# EAGLE library part ATTINY24A (library !ATtiny24A)
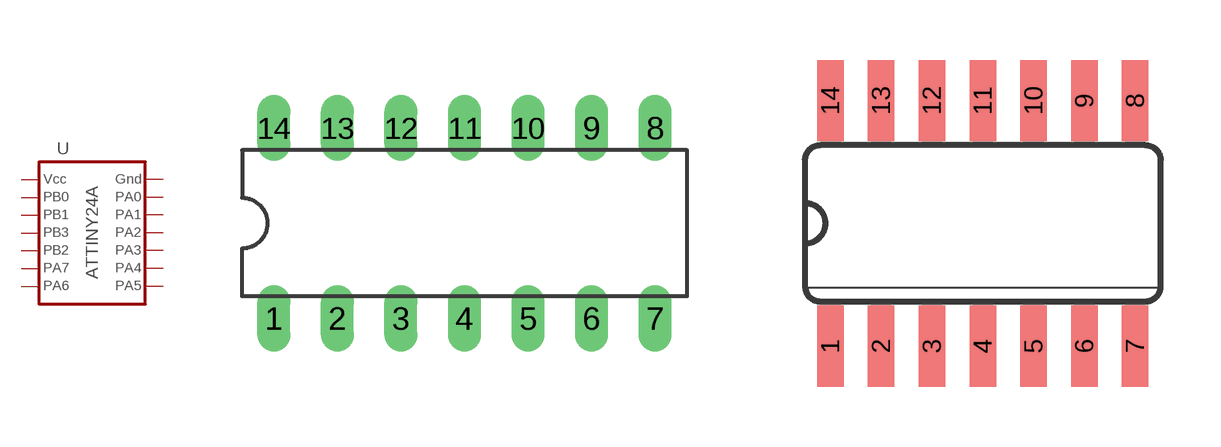
[diagram p0: symbol with the pads of TINY24A; footprints TINY24A, SO14]

Designator prefix -

## ATTINY24A  [TINY24A]
1  P$1
2  P$2
3  P$3
4  P$4
5  P$5
6  P$6
7  P$7
8  P$8
9  P$9
10  P$10
11  P$11
12  P$12
13  P$13
14  P$14

## ATTINY24ASO14  [SO14]
Pads as for TINY24A

## Footprint TINY24A (pad centres in mm)
drill 0.813 long: 1 -1.27,-5.08; 2 1.27,-5.08; 3 3.81,-5.08; 4 6.35,-5.08; 5 8.89,-5.08; 6 11.43,-5.08; 7 13.97,-5.08; 8 13.97,2.54; 9 11.43,2.54; 10 8.89,2.54; 11 6.35,2.54; 12 3.81,2.54; 13 1.27,2.54; 14 -1.27,2.54

## Footprint SO14 (pad centres in mm)
smd 0.66 x 2.032: 1 0,-1.803; 2 1.27,-1.803; 3 2.54,-1.803; 4 3.81,-1.803; 5 5.08,-1.803; 6 6.35,-1.803; 7 7.62,-1.803; 8 7.62,4.343; 9 6.35,4.343; 10 5.08,4.343; 11 3.81,4.343; 12 2.54,4.343; 13 1.27,4.343; 14 0,4.343